# EAGLE library part LNK623-626 (library power_integrations)
The LinkSwitch-CV dramatically simplifies low power, constant voltage (CV) converter design through a revolutionary control technique which eliminates the need for both an optocoupler and secondary CV control circuitry while providing very tight output voltage regulation. The combination of proprietary IC trimming and E-Shield™ transformer construction techniques enables Clampless™ designs with the LinkSwitch-CV LNK623/4.
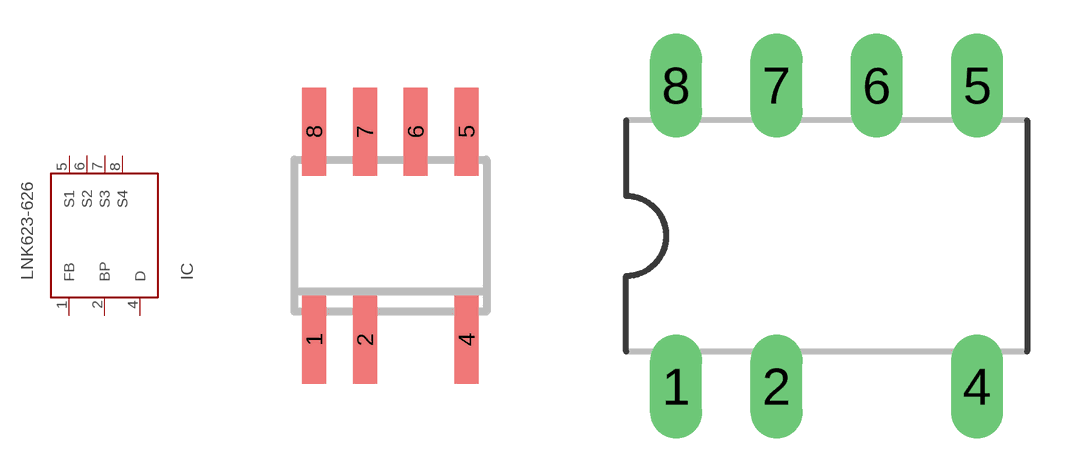
[diagram p21: symbol with the pads of SO8-C(D_PACKAGE); footprints SO8-C(D_PACKAGE), PDIP-8C(P-PACKAGE)]

Designator prefix IC

## LNK623-626  [SO8-C(D_PACKAGE)]
1  FB
2  BP
4  D
5  S1
6  S2
7  S3
8  S4

## LNK623-626PDIP-8C  [PDIP-8C(P-PACKAGE)]
Pads as for SO8-C(D_PACKAGE)

## Footprint SO8-C(D_PACKAGE) (pad centres in mm)
SMALL OUTLINE INTEGRATED CIRCUIT body 3.9 mm/JEDEC MS-012AA
smd 0.6 x 2.2: 1 -1.905,-2.6; 2 -0.635,-2.6; 4 1.905,-2.6; 5 1.905,2.6; 6 0.635,2.6; 7 -0.635,2.6; 8 -1.905,2.6

## Footprint PDIP-8C(P-PACKAGE) (pad centres in mm)
Dual In Line Package
drill 0.813 long: 1 -3.81,-3.81; 2 -1.27,-3.81; 4 3.81,-3.81; 5 3.81,3.81; 6 1.27,3.81; 7 -1.27,3.81; 8 -3.81,3.81